# Altium footprint library 7178DG.PcbLib: 1 footprints
Each footprint in its own frame and in the unit in brackets; x right, y up, seen from the top. Pads: shape width x height; smd on the part's side, far side on the other; paste and mask are expansions set on the pad; w line width, h text height; cw(c..) or ccw(c..) is an arc to the next point about the centre after c.
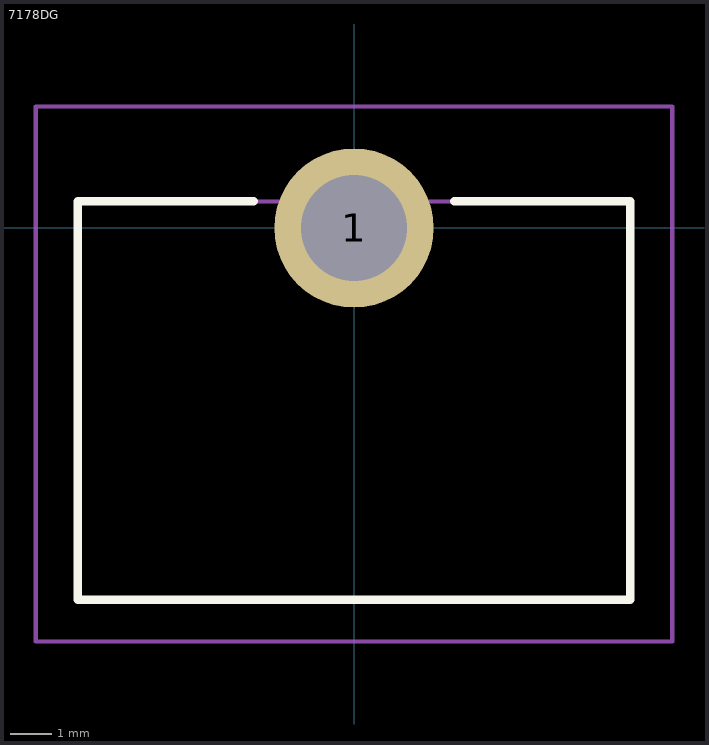
[diagram p0: the footprint, top view; thin cyan lines are the x and y axes]

## 7178DG [mil]
pads (1):
  round 150 hole 100: 1(0,0)
Top Overlay:
  lines w7.87: -94.49,25 -260.04,25 -260.04,-349.8 260.04,-349.8 260.04,25 94.49,25
Mechanical 15:
  lines w3.94: -260.04,-349.8 260.04,-349.8 260.04,25 -260.04,25 -260.04,-349.8
Mechanical 20:
  lines w3.94: -299.41,-389.17 299.41,-389.17 299.41,114.37 -299.41,114.37 -299.41,-389.17